# Altium integrated library ESP32_Watch_Project_V2.0.IntLib: 15 symbols
Pins are listed as number, name and electrical type; pins without a type are passive.

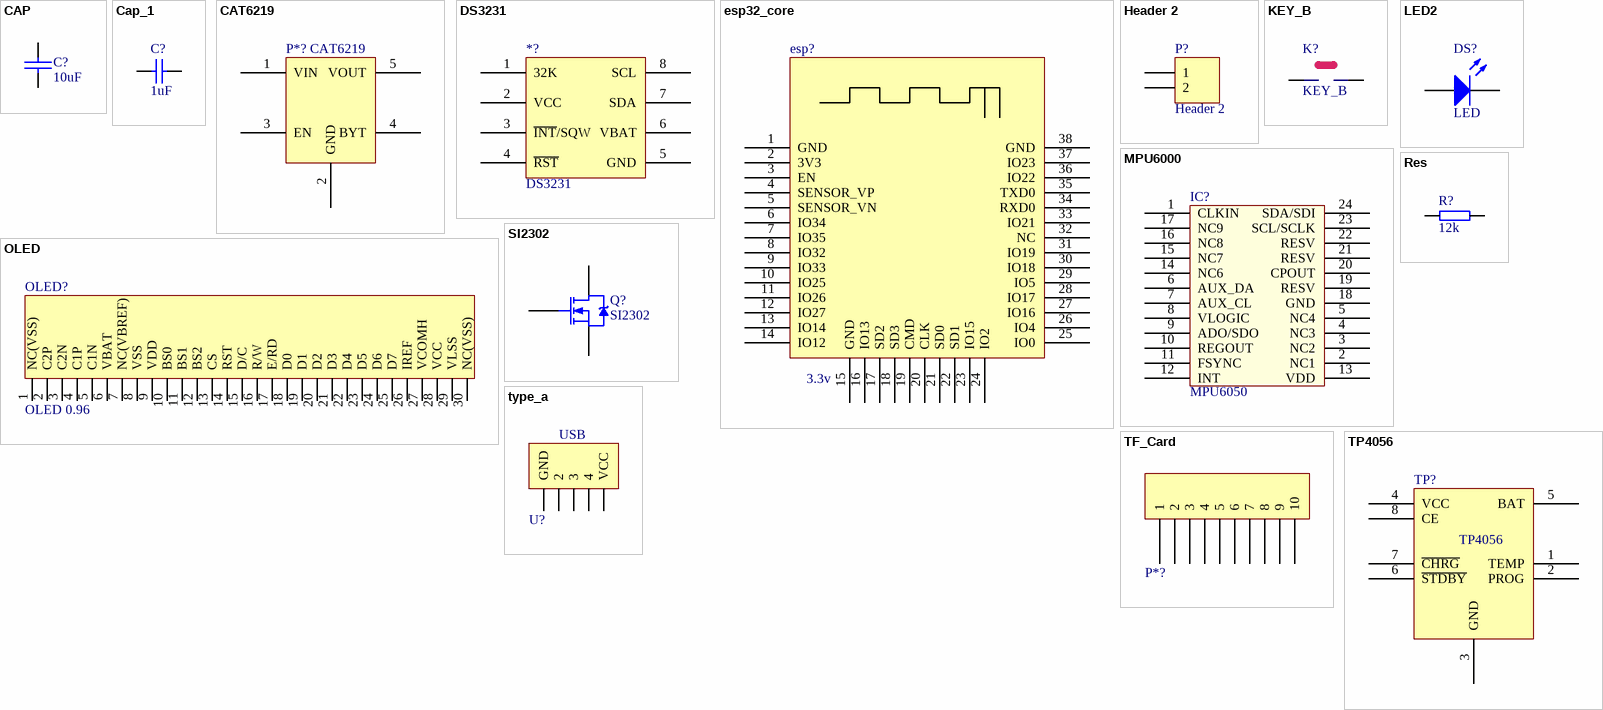
[diagram p0: symbols CAP to type_a]

## CAP
designator C?, comment 10uF
Capacitor
footprint C0603
pins: 1, 2

## Cap_1
designator C?, comment 1uF
Capacitor; Value: 0.01uF; Published: 8-Jun-2000; LatestRevisionDate: 17-Jul-2002; LatestRevisionNote: Re-released for DXP Platform.; PackageReference: RAD-0.3; Publisher: Altium Limited; PackageDescription: Radial Cap, Thru-Hole; 2 Leads; 0.3 in Pin Spacing
simulation model CAP (Capacitor)
signal-integrity model Cap
footprint C0603
pins: 1, 2

## CAT6219
designator P*?
footprint CAT6219
pins: 1 VIN, 2 GND, 3 EN, 4 BYT, 5 VOUT

## DS3231
designator *?
footprint 2104
pins: 1 32K, 2 VCC, 3 ~{INT}/SQW, 4 ~{RST}, 5 GND, 6 VBAT, 7 SDA, 8 SCL

## esp32_core
designator esp?, comment 3.3v
footprint esp32_cord
pins: 1 GND, 2 3V3, 3 EN, 4 SENSOR_VP, 5 SENSOR_VN, 6 IO34, 7 IO35, 8 IO32, 9 IO33, 10 IO25, 11 IO26, 12 IO27, 13 IO14, 14 IO12, 15 GND, 16 IO13, 17 SD2, 18 SD3, 19 CMD, 20 CLK, 21 SD0, 22 SD1, 23 IO15, 24 IO2, 25 IO0, 26 IO4, 27 IO16, 28 IO17, 29 IO5, 30 IO18, 31 IO19, 32 NC, 33 IO21, 34 RXD0, 35 TXD0, 36 IO22, 37 IO23, 38 GND

## Header 2
designator P?
Header, 2-Pin; LatestRevisionDate: 17-Jul-2002; LatestRevisionNote: Re-released for DXP Platform.; Publisher: Altium Limited
footprint HDR1X2 (Connector; Header; 2 Position)
signal-integrity model Connector
pins: 1, 2

## KEY_B
designator K?
footprint KEY_b
pins: 1, 2

## LED2
designator DS?, comment LED
Typical RED, GREEN, YELLOW, AMBER GaAs LED; Published: 8-Jun-2000; LatestRevisionDate: 17-Jul-2002; LatestRevisionNote: Re-released for DXP Platform.; PackageDocument: Feb-2002; PackageReference: 3.2X1.6X1.1; Publisher: Altium Limited
footprint SMDLED
simulation model LED2 (Diode)
pins: 1 A, 2 K

## MPU6000
designator IC?, comment MPU6050
footprint QFN24 - 4*4*0.9
pins: 1 CLKIN, 2 NC1, 3 NC2, 4 NC3, 5 NC4, 6 AUX_DA, 7 AUX_CL, 8 VLOGIC, 9 ADO/SDO, 10 REGOUT, 11 FSYNC, 12 INT, 13 VDD, 14 NC6, 15 NC7, 16 NC8, 17 NC9, 18 GND, 19 RESV, 20 CPOUT, 21 RESV, 22 RESV, 23 SCL/SCLK, 24 SDA/SDI

## OLED
designator OLED?, comment OLED 0.96
footprint 0.96_OLED
pins: 1 NC(VSS), 2 C2P, 3 C2N, 4 C1P, 5 C1N, 6 VBAT, 7 NC(VBREF), 8 VSS, 9 VDD, 10 BS0, 11 BS1, 12 BS2, 13 CS, 14 RST, 15 D/C, 16 R/W, 17 E/RD, 18 D0, 19 D1, 20 D2, 21 D3, 22 D4, 23 D5, 24 D6, 25 D7, 26 IREF, 27 VCOMH, 28 VCC, 29 VLSS, 30 NC(VSS)

## Res
designator R?, comment 12k
footprint R0603
pins: 1, 2

## SI2302
designator Q?
N-Channel Power MOSFET; Published: 8-August-2017; PackageReference: SOT23-3; Publisher: mazhongwei
footprint SOT-23(SOT-23-3)
pins: 1 G, 2 S, 3 D

## TF_Card
designator P*?, comment P*  (value not drawn)
footprint TF_Card
pins: 1, 2, 3, 4, 5, 6, 7, 8, 9, 10

## TP4056
designator TP?
footprint 2104
pins: 1 TEMP, 2 PROG, 3 GND, 4 VCC, 5 BAT, 6 ~{STDBY}, 7 ~{CHRG}, 8 CE

## type_a
designator U?, comment U?  (value not drawn)
footprint type_a
pins: 1 GND, 2, 3, 4, 5 VCC
text: USB